# EAGLE library part ATLAS_EZO_EC (library AtlasMeters)
Atlas EZO EC Meter circuit Datasheet: https://www.atlas-scientific.com/_files/_datasheets/_circuit/EC_EZO_Datasheet.pdf
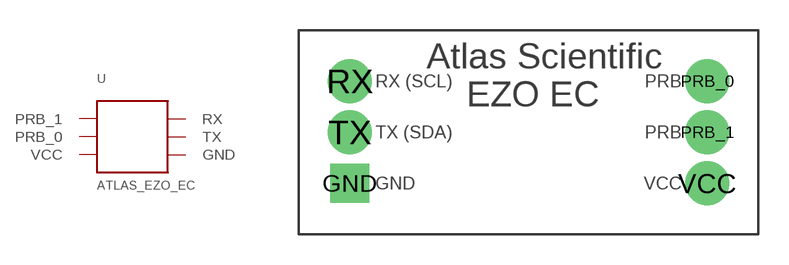
[diagram p1: symbol with the pads of ATLAS_EZO_EC; footprint ATLAS_EZO_EC]

Designator prefix -

## ATLAS_EZO_EC  [ATLAS_EZO_EC]
GND  GND  pwr
PRB_0  PRB_0
PRB_1  PRB_1
RX  RX
TX  TX
VCC  VCC  pwr

## Footprint ATLAS_EZO_EC (pad centres in mm)
drill 0.8 pad 1.93 square: GND -8.89,-2.54
drill 0.8 pad 2.184: PRB_0 8.89,2.54; PRB_1 8.89,0; RX -8.89,2.54
drill 0.85 pad 2.184: TX -8.89,0; VCC 8.89,-2.54